# Altium footprint library HAB_Connectors.PcbLib: 10 footprints
Each footprint in its own frame and in the unit in brackets; x right, y up, seen from the top. Pads: shape width x height; smd on the part's side, far side on the other; paste and mask are expansions set on the pad; w line width, h text height; cw(c..) or ccw(c..) is an arc to the next point about the centre after c.
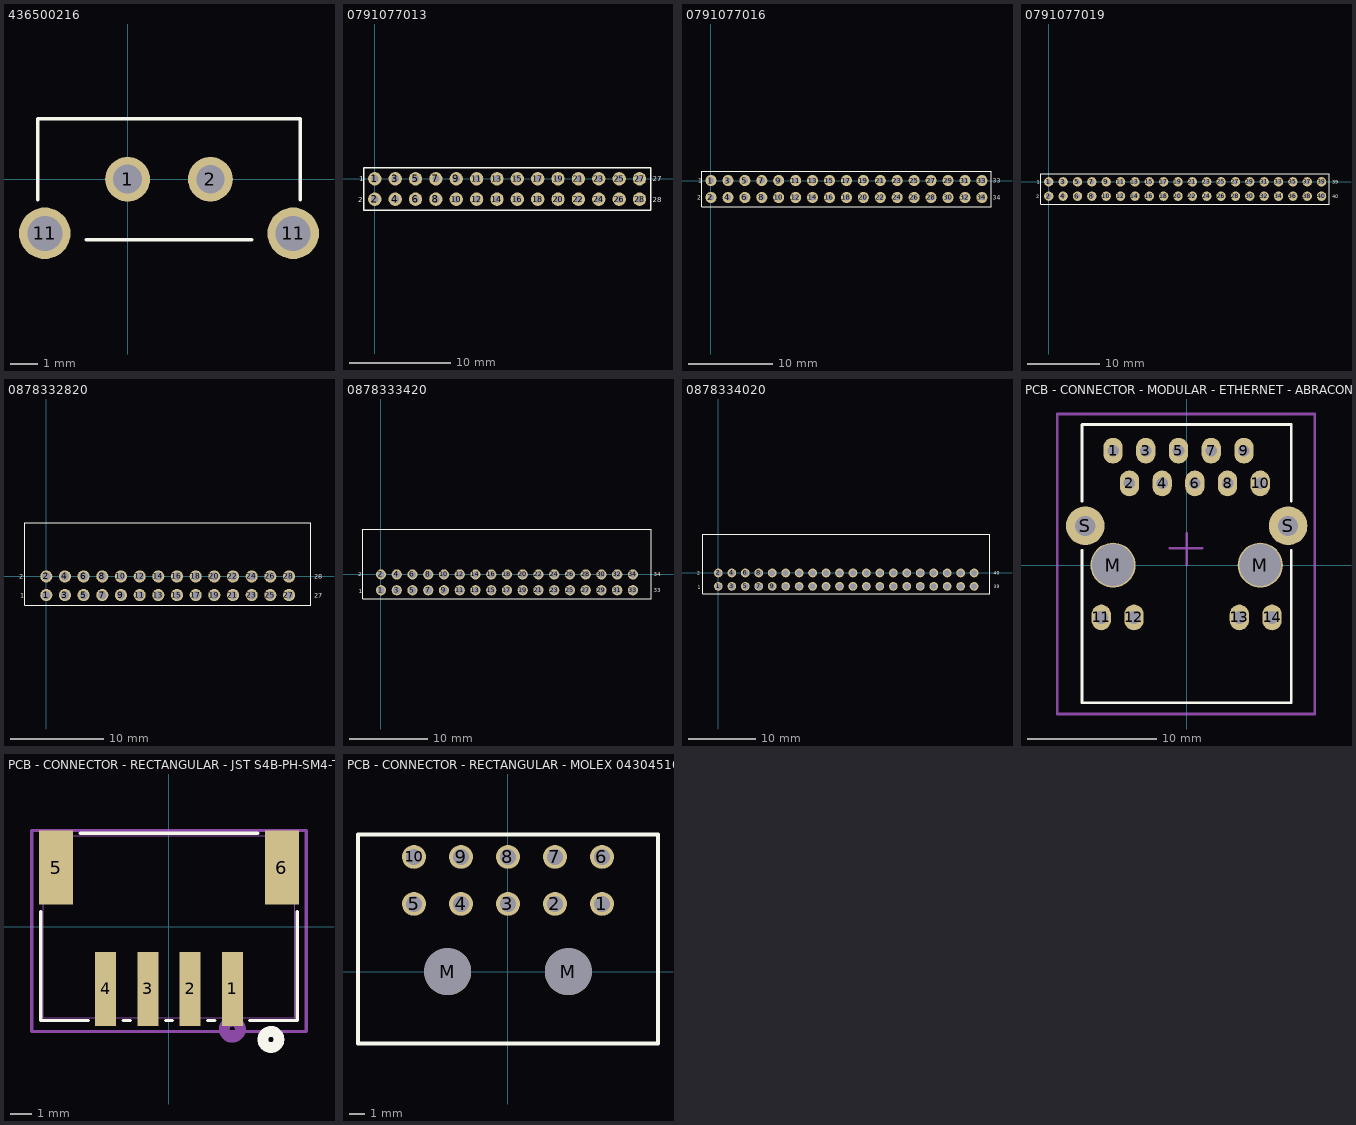
[diagram p0: the footprints below, top view; thin cyan lines are the x and y axes]

## 436500216 [mm] "2 pin microfit header, vertical"
pads (4):
  round 1.62 hole 1.05: 1(0,0)
  round 1.62 hole 1.02: 2(3,0)
  round 1.87 hole 1.27 unplated: 11(-3,-1.96) 11(6,-1.96)
Top Overlay:
  lines w0.127: -3.25,-0.75 -3.25,2.185 6.25,2.185 6.25,-0.75 ; -1.5,-2.185 4.5,-2.185
3D body "436500216.stp": height 9.95, standoff -3.13, extent -3.301,-2.47 6.349,3.135

## 0791077013 [mm] "28 pin milli-grid receptacle, vertical"
pads (28):
  round 1.31 hole 0.71: 1(0,0) 2(0,-2) 3(2,0) 4(2,-2) 5(4,0) 6(4,-2) 7(6,0) 8(6,-2) 9(8,0) 10(8,-2) 11(10,0) 12(10,-2) 13(12,0) 14(12,-2) 15(14,0) 16(14,-2) 17(16,0) 18(16,-2) 19(18,0) 20(18,-2) 21(20,0) 22(20,-2) 23(22,0) 24(22,-2) 25(24,0) 26(24,-2) 27(26,0) 28(26,-2)
Top Overlay:
  lines w0.127: -1.09,-3.09 27.09,-3.09 27.09,1.09 -1.09,1.09 -1.09,-3.09
  text "1" at -1.524,-0.254 h0.51
  text "2" at -1.651,-2.286 h0.51
  text "27" at 27.305,-0.254 h0.51
  text "28" at 27.305,-2.286 h0.51
3D body "791077013.stp": height 4.47, standoff -2.97, extent -1.095,-3.095 27.095,1.095

## 0791077016 [mm] "34 pin milli-grid receptacle, vertical"
pads (34):
  round 1.31 hole 0.71: 1(0,0) 2(0,-2) 3(2,0) 4(2,-2) 5(4,0) 6(4,-2) 7(6,0) 8(6,-2) 9(8,0) 10(8,-2) 11(10,0) 12(10,-2) 13(12,0) 14(12,-2) 15(14,0) 16(14,-2) 17(16,0) 18(16,-2) 19(18,0) 20(18,-2) 21(20,0) 22(20,-2) 23(22,0) 24(22,-2) 25(24,0) 26(24,-2) 27(26,0) 28(26,-2) 29(28,0) 30(28,-2) 31(30,0) 32(30,-2) 33(32,0) 34(32,-2)
Top Overlay:
  lines w0.127: -1.09,-3.09 33.09,-3.09 33.09,1.09 -1.09,1.09 -1.09,-3.09
  text "1" at -1.524,-0.254 h0.51
  text "2" at -1.651,-2.286 h0.51
  text "33" at 33.274,-0.254 h0.51
  text "34" at 33.274,-2.286 h0.51
3D body "791077016.stp": height 4.47, standoff -2.97, extent -1.095,-3.095 33.095,1.095

## 0791077019 [mm] "40 pin milli-grid receptacle, vertical"
pads (40):
  round 1.31 hole 0.71: 1(0,0) 2(0,-2) 3(2,0) 4(2,-2) 5(4,0) 6(4,-2) 7(6,0) 8(6,-2) 9(8,0) 10(8,-2) 11(10,0) 12(10,-2) 13(12,0) 14(12,-2) 15(14,0) 16(14,-2) 17(16,0) 18(16,-2) 19(18,0) 20(18,-2) 21(20,0) 22(20,-2) 23(22,0) 24(22,-2) 25(24,0) 26(24,-2) 27(26,0) 28(26,-2) 29(28,0) 30(28,-2) 31(30,0) 32(30,-2) 33(32,0) 34(32,-2) 35(34,0) 36(34,-2) 37(36,0) 38(36,-2) 39(38,0) 40(38,-2)
Top Overlay:
  lines w0.127: -1.09,-3.09 39.09,-3.09 39.09,1.09 -1.09,1.09 -1.09,-3.09
  text "1" at -1.651,-0.254 h0.51
  text "2" at -1.778,-2.286 h0.51
  text "39" at 39.497,-0.254 h0.51
  text "40" at 39.497,-2.286 h0.51
3D body "791077019.stp": height 4.47, standoff -2.97, extent -1.095,-3.095 39.095,1.095

## 0878332820 [mm] "28 pin milli-grid header, right-angle"
pads (28):
  round 1.3 hole 0.9: 1(0,-2) 2(0,0) 3(2,-2) 4(2,0) 5(4,-2) 6(4,0) 7(6,-2) 8(6,0) 9(8,-2) 10(8,0) 11(10,-2) 12(10,0) 13(12,-2) 14(12,0) 15(14,-2) 16(14,0) 17(16,-2) 18(16,0) 19(18,-2) 20(18,0) 21(20,-2) 22(20,0) 23(22,-2) 24(22,0) 25(24,-2) 26(24,0) 27(26,-2) 28(26,0)
Top Overlay:
  lines w0.127: -2.325,-3.09 28.325,-3.09 28.325,5.75 -2.325,5.75 -2.325,-3.09
  text "1" at -2.794,-2.286 h0.51
  text "2" at -2.921,-0.254 h0.51
  text "27" at 28.702,-2.286 h0.51
  text "28" at 28.702,-0.254 h0.51
3D body "878332820.stp": height 6.35, standoff -2.11, extent -2.325,-2.25 28.325,6.4

## 0878333420 [mm] "34 pin milli-grid header, right-angle"
pads (34):
  round 1.3 hole 0.9: 1(0,-2) 2(0,0) 3(2,-2) 4(2,0) 5(4,-2) 6(4,0) 7(6,-2) 8(6,0) 9(8,-2) 10(8,0) 11(10,-2) 12(10,0) 13(12,-2) 14(12,0) 15(14,-2) 16(14,0) 17(16,-2) 18(16,0) 19(18,-2) 20(18,0) 21(20,-2) 22(20,0) 23(22,-2) 24(22,0) 25(24,-2) 26(24,0) 27(26,-2) 28(26,0) 29(28,-2) 30(28,0) 31(30,-2) 32(30,0) 33(32,-2) 34(32,0)
Top Overlay:
  lines w0.127: -2.325,-3.09 34.325,-3.09 34.325,5.75 -2.325,5.75 -2.325,-3.09
  text "1" at -2.794,-2.413 h0.51
  text "2" at -2.921,-0.254 h0.51
  text "33" at 34.671,-2.286 h0.51
  text "34" at 34.671,-0.254 h0.51
3D body "878333420.stp": height 6.35, standoff -2.11, extent -2.325,-2.25 34.325,6.4

## 0878334020 [mm] "40 pin milli-grid header, right-angle"
pads (40):
  round 1.3 hole 0.9: 1(0,-2) 2(0,0) 3(2,-2) 4(2,0) 5(4,-2) 6(4,0) 7(6,-2) 8(6,0) 9(8,-2) 10(8,0) 11(10,-2) 12(10,0) 13(12,-2) 14(12,0) 15(14,-2) 16(14,0) 17(16,-2) 18(16,0) 19(18,-2) 20(18,0) 21(20,-2) 22(20,0) 23(22,-2) 24(22,0) 25(24,-2) 26(24,0) 27(26,-2) 28(26,0) 29(28,-2) 30(28,0) 31(30,-2) 32(30,0) 33(32,-2) 34(32,0) 35(34,-2) 36(34,0) 37(36,-2) 38(36,0) 39(38,-2) 40(38,0)
Top Overlay:
  lines w0.127: -2.325,-3.09 -2.325,5.75 40.325,5.75 40.325,-3.09 -2.325,-3.09
  text "39" at 40.894,-2.286 h0.51
  text "40" at 40.894,-0.254 h0.51
  text "1" at -3.048,-2.413 h0.51
  text "2" at -3.175,-0.254 h0.51
3D body "878334020.stp": height 6.35, standoff -2.11, extent -2.325,-2.25 40.325,6.4

## PCB - CONNECTOR - MODULAR - ETHERNET - ABRACON ARJM11 [mm]
pads (18):
  oval 1.5x2 hole 0.9: 1(-5.715,8.89) 2(-4.445,6.35) 3(-3.175,8.89) 4(-1.905,6.35) 5(-0.635,8.89) 6(0.635,6.35) 7(1.905,8.89) 8(3.175,6.35) 9(4.445,8.89) 10(5.715,6.35)
  oval 1.5x2 hole 1.02: 11(-6.63,-4.06) 12(-4.09,-4.06) 13(4.09,-4.06) 14(6.63,-4.06)
  round 3.5 hole 3.25: M(-5.715,0) M(5.715,0)
  round 3 hole 1.57: S(-7.875,3.05) S(7.875,3.05)
Top Overlay:
  lines w0.2: -8.128,1.143 -8.128,-10.668 8.128,-10.668 8.128,1.143 ; -8.128,4.953 -8.128,10.922 8.128,10.922 8.128,4.953
Mechanical 15:
  lines w0.2: -1.302,1.302 1.2,1.302 ; 0,0 0,2.487 ; -10.052,-11.557 -10.052,11.737 9.948,11.737 9.948,-11.557 -10.052,-11.557
3D body "ARJM11B1-AB(10P).stp": height 13.2, standoff -4.1, extent -8.095,-10.75 8.095,10.85

## PCB - CONNECTOR - RECTANGULAR - JST S4B-PH-SM4-TB(LF)(SN)_JST [mil]
pads (6):
  rect 39x138 smd paste+0 mask+0: 1(118.11,-115.93) 2(39.37,-115.93) 3(-39.37,-115.93) 4(-118.11,-115.93)
  rect 63x138 smd: 5(-210.63,110.44) 6(210.63,110.44)
Top Overlay:
  circle w20: c190,-210 r15
  lines w6: -239.25,28.34 -239.25,-174.5 -150.71,-174.5 ; -166.03,174.5 166.03,174.5 ; -85.51,-174.5 -71.97,-174.5 ; -6.77,-174.5 6.77,-174.5 ; 71.97,-174.5 85.51,-174.5 ; 150.71,-174.5 239.25,-174.5 239.25,28.34
Bottom Overlay:
  circle w20: c190,-210 r15
Mechanical 13:
  circle w20: c118.11,-190.93 r15
  lines w1: -234.25,-169.5 -234.25,169.5 234.25,169.5 234.25,-169.5 -234.25,-169.5
Mechanical 15:
  lines w6: -255.91,-194.93 255.91,-194.93 255.91,179.5 -255.91,179.5 -255.91,-194.93
3D body "S4B-PH-SM4-TB.stp": height 188.98, standoff 0, extent -234.26,-169.3 234.25,169.29
3D body: height 10, standoff 0, extent 0,0 10,10

## PCB - CONNECTOR - RECTANGULAR - MOLEX 0430451000 [mm]
pads (12):
  round 1.524 hole 1.02: 1(6,4.32) 2(3,4.32) 3(0,4.32) 4(-3,4.32) 5(-6,4.32) 6(6,7.32) 7(3,7.32) 8(0,7.32) 9(-3,7.32) 10(-6,7.32)
  round 3 hole 3: M(-3.85,0) M(3.85,0)
Top Overlay:
  lines w0.254: -9.575,-4.605 9.575,-4.605 9.575,8.763 -9.575,8.763 -9.575,-4.605
3D body "430451000.stp": height 8.83, standoff -3.12, extent -9.575,-4.605 9.575,7.635